# Altium schematic symbol library D_Zener_Dual_CA.Schlib: 1 symbol
Pins are listed as number, name and electrical type; pins without a type are passive.

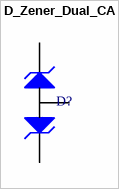
[diagram p0: symbol D_Zener_Dual_CA]

## D_Zener_Dual_CA
designator D?
simulation model ZENER (Diode)
signal-integrity model D Zener
pins: 1 K1, 2 K2, 3 A